# Altium footprint library libochka.PcbLib: 2 footprints
Each footprint in its own frame and in the unit in brackets; x right, y up, seen from the top. Pads: shape width x height; smd on the part's side, far side on the other; paste and mask are expansions set on the pad; w line width, h text height; cw(c..) or ccw(c..) is an arc to the next point about the centre after c.
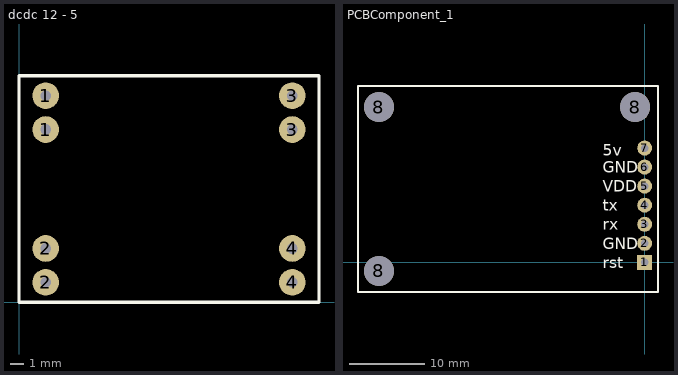
[diagram p0: the footprints below, top view; thin cyan lines are the x and y axes]

## dcdc 12 - 5 [mm] "mp1584"
pads (8):
  round 2 hole 0.8: 1(2,12.96) 1(2,15.5) 2(2,1.5) 2(2,4.04) 3(20.5,12.96) 3(20.5,15.5) 4(20.5,1.5) 4(20.5,4.04)
Top Overlay:
  lines w0.254: 0,0 0,17 22.5,17 22.5,0 0,0
3D body: height 10, standoff 8.5, extent 0,0 22.5,17

## PCBComponent_1 [mm]
pads (10):
  rect 2x2 hole 1: 1(0,0)
  round 2 hole 1: 2(0,2.54) 3(0,5.08) 4(0,7.62) 5(0,10.16) 6(0,12.7) 7(0,15.24)
  round 4 hole 4 unplated: 8(-35.433,-1.143) 8(-35.433,20.701) 8(-1.27,20.701)
Top Overlay:
  lines w0.254: -38.227,-3.937 1.773,-3.937 1.773,23.5 -38.227,23.5 -38.227,-3.937
  text "5v" at -5.588,14.224 h1.52
  text "GND" at -5.588,11.938 h1.52
  text "VDD" at -5.588,9.398 h1.52
  text "tx" at -5.588,6.858 h1.52
  text "rx" at -5.588,4.318 h1.52
  text "GND" at -5.588,1.778 h1.52
  text "rst" at -5.588,-0.762 h1.52
3D body "SIM800L_EVB-Module.step": height 15.81, standoff 2.05, extent -38.199,-4.006 1.651,23.564